# Altium footprint library Tantalum Capacitor.PcbLib: 19 footprints (part 1 of 2)
Each footprint in its own frame and in the unit in brackets; x right, y up, seen from the top. Pads: shape width x height; smd on the part's side, far side on the other; paste and mask are expansions set on the pad; w line width, h text height; cw(c..) or ccw(c..) is an arc to the next point about the centre after c.
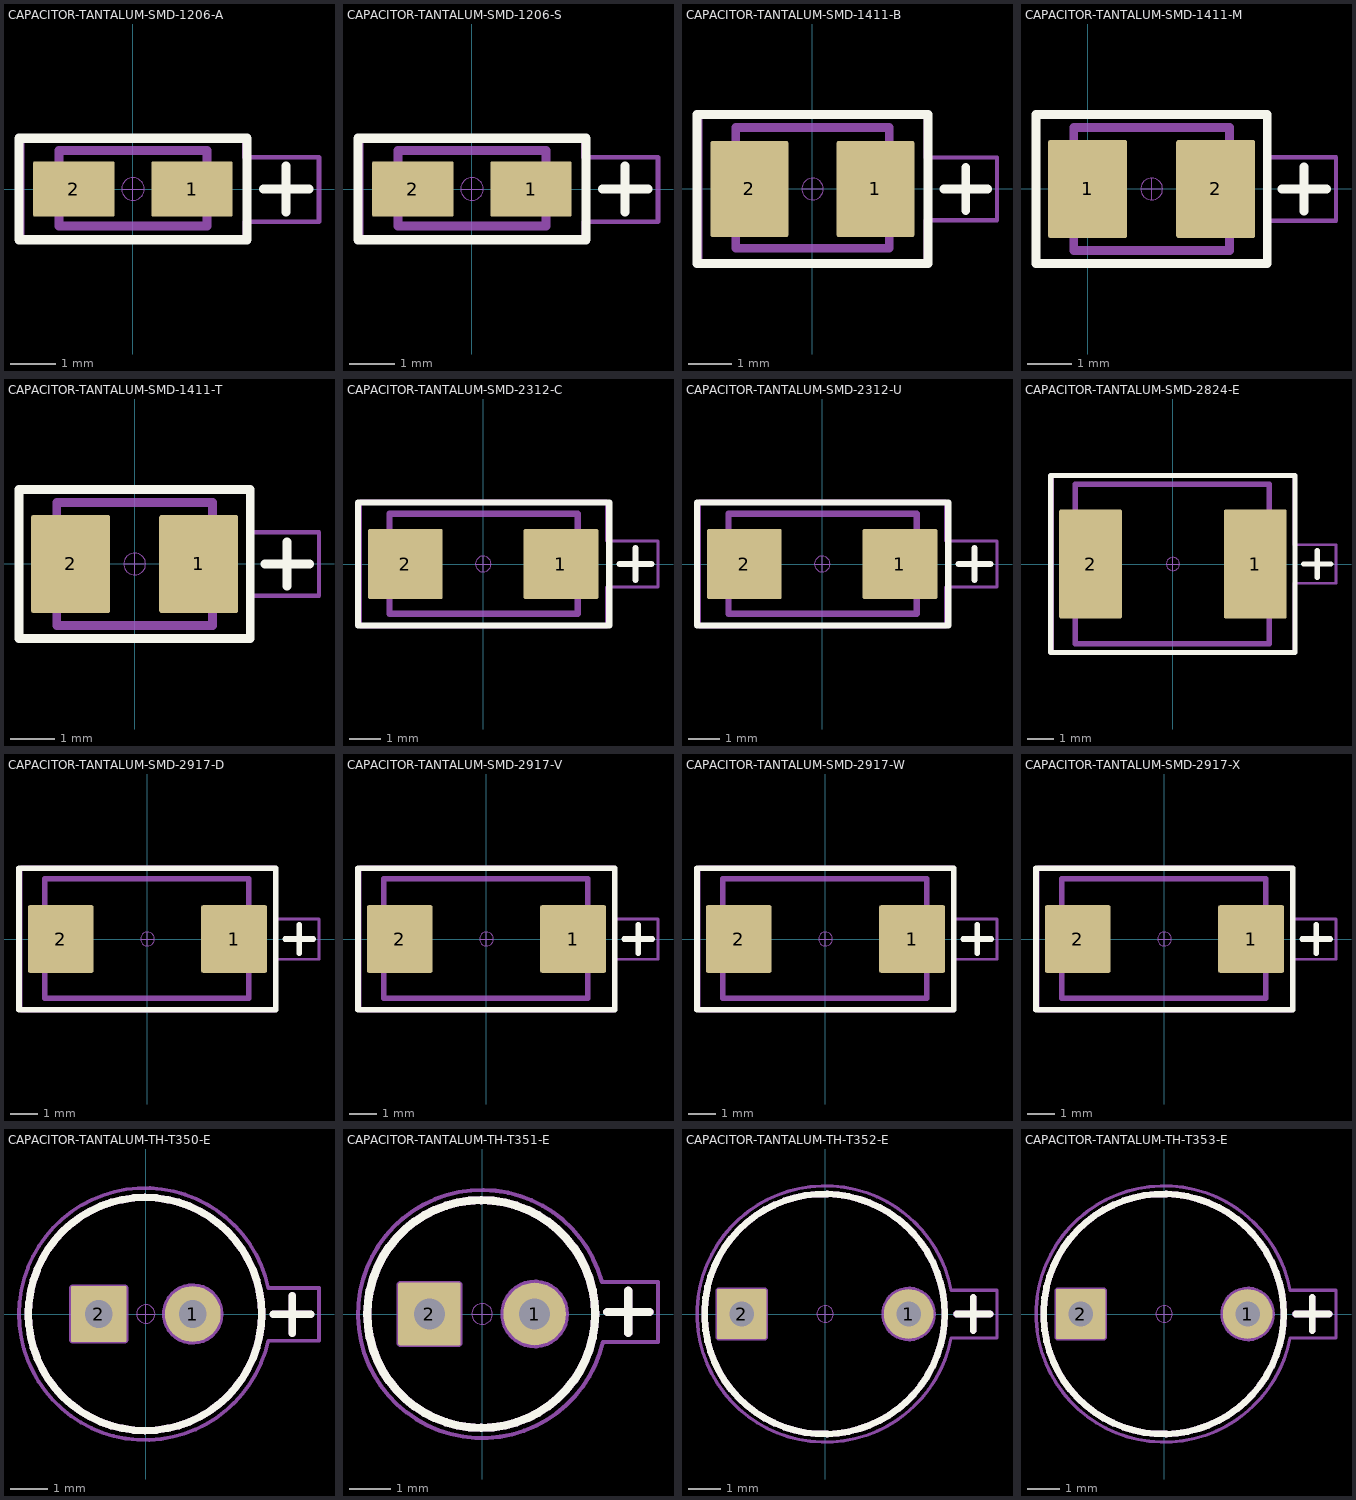
[diagram p0: the footprints below, top view; thin cyan lines are the x and y axes]

## CAPACITOR-TANTALUM-SMD-1206-A [mm] "Tantalum Capacitor SMD 1206 (Metric 3216) Case A"
height 1.8
pads (2):
  rrect5% 1.8x1.23 smd mask+0.05: 1(1.31,0) 2(-1.31,0)
Top Overlay:
  lines w0.2: 2.89,0 3.906,0 ; 3.398,-0.508 3.398,0.508 ; -2.525,-1.125 -2.525,1.125 2.525,1.125 2.525,-1.125 -2.525,-1.125
Top Component Outline:
  lines w0.2: -1.635,-0.825 1.64,-0.825 1.64,0.85 -1.635,0.85 -1.635,-0.825
  text "'.Comment'" at -2.226,-0.627 h1
Top Courtyard:
  lines w0.1: -2.45,-1.145 -2.45,1.15 2.47,1.15 2.47,0.705 4.12,0.705 ; -2.445,-1.15 2.475,-1.15 2.475,-0.725 4.125,-0.725 4.125,0.7
Top Component Center:
  circle w0.012: c0,0 r0.25
  lines w0.012: -0.25,0 0,0 ; 0,-0.25 0,0 ; 0,0.25 0,0 ; 0.25,0 0,0
Top Designator:
  text "'.Designator'" at -2.442,-0.224 h1
Top Assembly:
  lines w0.2: -1.635,-0.825 -1.635,0.85 1.64,0.85 1.64,-0.825 -1.635,-0.825
  text "'.Designator'" at -2.442,-0.224 h1
3D body "CAPACITOR-SMD-1206-A.step": height 1.8, standoff 0, extent -1.6,-0.8 1.6,0.8

## CAPACITOR-TANTALUM-SMD-1206-S [mm] "Tantalum Capacitor SMD 1206 (Metric 3216) Case S"
height 1.2
pads (2):
  rrect5% 1.8x1.23 smd mask+0.05: 1(1.31,0) 2(-1.31,0)
Top Overlay:
  lines w0.2: 2.89,0 3.906,0 ; 3.398,-0.508 3.398,0.508 ; -2.525,-1.125 -2.525,1.125 2.525,1.125 2.525,-1.125 -2.525,-1.125
Top Component Outline:
  lines w0.2: -1.635,-0.825 1.64,-0.825 1.64,0.85 -1.635,0.85 -1.635,-0.825
  text "'.Comment'" at -2.226,-0.627 h1
Top Courtyard:
  lines w0.1: -2.45,-1.145 -2.45,1.15 2.47,1.15 2.47,0.705 4.12,0.705 ; -2.445,-1.15 2.475,-1.15 2.475,-0.725 4.125,-0.725 4.125,0.7
Top Component Center:
  circle w0.012: c0,0 r0.25
  lines w0.012: -0.25,0 0,0 ; 0,-0.25 0,0 ; 0,0.25 0,0 ; 0.25,0 0,0
Top Designator:
  text "'.Designator'" at -2.442,-0.224 h1
Top Assembly:
  lines w0.2: -1.635,-0.825 -1.635,0.85 1.64,0.85 1.64,-0.825 -1.635,-0.825
  text "'.Designator'" at -2.442,-0.224 h1
3D body "CAPACITOR-SMD-1206-S.step": height 1.2, standoff 0, extent -1.585,-0.8 1.615,0.8

## CAPACITOR-TANTALUM-SMD-1411-B [mm] "Tantalum Capacitor SMD 1411 (Metric 3528) Case B"
height 2.1
pads (2):
  rrect5% 1.8x2.23 smd mask+0.05: 1(1.46,0) 2(-1.46,0)
Top Overlay:
  lines w0.2: 3.04,0 4.056,0 ; 3.548,-0.508 3.548,0.508 ; -2.675,-1.725 -2.675,1.725 2.675,1.725 2.675,-1.725 -2.675,-1.725
Top Component Outline:
  lines w0.2: -1.775,-1.375 1.775,-1.375 1.775,1.425 -1.775,1.425 -1.775,-1.375
  text "'.Comment'" at -2.226,-1.102 h1
Top Courtyard:
  lines w0.1: 2.62,-1.75 -2.6,-1.75 -2.6,1.75 2.62,1.75 2.62,0.73 4.27,0.73 ; 2.625,-1.745 2.625,-0.725 4.275,-0.725 4.275,0.725
Top Component Center:
  circle w0.012: c0,0 r0.25
  lines w0.012: -0.25,0 0,0 ; 0,-0.25 0,0 ; 0,0.25 0,0 ; 0.25,0 0,0
Top Designator:
  text "'.Designator'" at -2.592,-0.224 h1
Top Assembly:
  lines w0.2: -1.775,-1.375 -1.775,1.425 1.775,1.425 1.775,-1.375 -1.775,-1.375
  text "'.Designator'" at -2.592,-0.224 h1
3D body "CAPACITOR-SMD-1411-B.step": height 2.1, standoff 0, extent -1.75,-1.4 1.75,1.4

## CAPACITOR-TANTALUM-SMD-1411-M [mm] "Tantalum Capacitor SMD 1411 (Metric 3528) Case M"
height 1.5
pads (2):
  rrect5% 1.8x2.23 smd mask+0.05: 1(0,0) 2(2.92,0)
Top Overlay:
  lines w0.2: 4.425,0 5.441,0 ; 4.933,-0.508 4.933,0.508 ; -1.175,-1.7 -1.175,1.7 4.095,1.7 4.095,-1.7 -1.175,-1.7
Top Component Outline:
  lines w0.2: -0.315,-1.4 3.235,-1.4 3.235,1.4 -0.315,1.4 -0.315,-1.4
  text "'.Comment'" at -0.766,-0.952 h1
Top Courtyard:
  lines w0.1: 4.08,-0.73 4.08,-1.75 -1.14,-1.75 -1.14,1.75 4.08,1.75 4.08,0.73 ; 4.085,-0.725 5.66,-0.725 5.66,0.725 4.085,0.725
Top Component Center:
  circle w0.012: c1.46,0 r0.25
  lines w0.012: 1.21,0 1.46,0 ; 1.46,-0.25 1.46,0 ; 1.46,0.25 1.46,0 ; 1.71,0 1.46,0
Top Designator:
  text "'.Designator'" at -0.982,-0.224 h1
Top Assembly:
  lines w0.2: -0.315,-1.4 -0.315,1.4 3.235,1.4 3.235,-1.4 -0.315,-1.4
  text "'.Designator'" at -0.982,-0.224 h1
3D body "cAPACITOR-SMD-1411-M.step": height 1.5, standoff 0, extent -0.29,-1.4 3.21,1.4

## CAPACITOR-TANTALUM-SMD-1411-T [mm] "Tantalum Capacitor SMD 1411 (Metric 3528) Case T"
height 1.2
pads (2):
  rrect5% 1.8x2.23 smd mask+0.05: 1(1.46,0) 2(-1.46,0)
Top Overlay:
  lines w0.2: 2.965,0 3.981,0 ; 3.473,-0.508 3.473,0.508 ; -2.635,-1.7 -2.635,1.7 2.635,1.7 2.635,-1.7 -2.635,-1.7
Top Component Outline:
  lines w0.2: -1.775,-1.4 1.775,-1.4 1.775,1.4 -1.775,1.4 -1.775,-1.4
  text "'.Comment'" at -2.226,-0.952 h1
Top Courtyard:
  lines w0.1: 2.62,-0.73 2.62,-1.75 -2.6,-1.75 -2.6,1.75 2.62,1.75 2.62,0.73 ; 2.625,-0.725 4.2,-0.725 4.2,0.725 2.625,0.725
Top Component Center:
  circle w0.012: c0,0 r0.25
  lines w0.012: -0.25,0 0,0 ; 0,-0.25 0,0 ; 0,0.25 0,0 ; 0.25,0 0,0
Top Designator:
  text "'.Designator'" at -2.442,-0.224 h1
Top Assembly:
  lines w0.2: -1.775,-1.4 -1.775,1.4 1.775,1.4 1.775,-1.4 -1.775,-1.4
  text "'.Designator'" at -2.442,-0.224 h1
3D body "CAPACITOR-SMD-1411-T.step": height 1.2, standoff 0, extent -1.76,-1.4 1.74,1.4

## CAPACITOR-TANTALUM-SMD-2312-C [mm] "Tantalum Capacitor SMD 2312 (Metric 6032) Case C"
height 2.8
pads (2):
  rrect5% 2.37x2.23 smd mask+0.05: 1(2.47,0) 2(-2.47,0)
Top Overlay:
  lines w0.2: 4.33,0 5.346,0 ; 4.838,-0.508 4.838,0.508 ; -3.975,-1.95 -3.975,1.95 4,1.95 4,-1.95 -3.975,-1.95
Top Component Outline:
  lines w0.2: -2.975,-1.575 3,-1.575 3,1.6 -2.975,1.6 -2.975,-1.575
  text "'.Comment'" at -2.226,-1.277 h1
Top Courtyard:
  lines w0.1: 3.92,-2 -3.9,-2 -3.9,2 3.92,2 3.92,0.73 5.545,0.73 ; 3.925,-1.995 3.925,-0.725 5.55,-0.725 5.55,0.725
Top Component Center:
  circle w0.012: c0,0 r0.25
  lines w0.012: -0.25,0 0,0 ; 0,-0.25 0,0 ; 0,0.25 0,0 ; 0.25,0 0,0
Top Designator:
  text "'.Designator'" at -2.442,-0.224 h1
Top Assembly:
  lines w0.2: -2.975,-1.575 -2.975,1.6 3,1.6 3,-1.575 -2.975,-1.575
  text "'.Designator'" at -2.442,-0.224 h1
3D body "CAPACITOR-SMD-2312-C.step": height 2.8, standoff 0, extent -3,-1.6 3,1.6

## CAPACITOR-TANTALUM-SMD-2312-U [mm] "Tantalum Capacitor SMD 2312 (Metric 6032) Case U"
height 1.5
pads (2):
  rrect5% 2.37x2.23 smd mask+0.05: 1(2.47,0) 2(-2.47,0)
Top Overlay:
  lines w0.2: 4.33,0 5.346,0 ; 4.838,-0.508 4.838,0.508 ; -3.975,-1.95 4,-1.95 4,1.95 -3.975,1.95 -3.975,-1.95
Top Component Outline:
  lines w0.2: -2.975,-1.575 -2.975,1.6 3,1.6 3,-1.575 -2.975,-1.575
  text "'.Comment'" at -2.226,-1.277 h1
Top Courtyard:
  lines w0.1: 3.92,-2 -3.9,-2 -3.9,2 3.92,2 3.92,0.73 5.545,0.73 ; 3.925,-1.995 3.925,-0.725 5.55,-0.725 5.55,0.725
Top Component Center:
  circle w0.012: c0,0 r0.25
  lines w0.012: -0.25,0 0,0 ; 0,-0.25 0,0 ; 0,0.25 0,0 ; 0.25,0 0,0
Top Designator:
  text "'.Designator'" at -2.442,-0.224 h1
Top Assembly:
  lines w0.2: -2.975,-1.575 3,-1.575 3,1.6 -2.975,1.6 -2.975,-1.575
  text "'.Designator'" at -2.442,-0.224 h1
3D body "CAPACITOR-SMD-2312-U.step": height 1.5, standoff 0, extent -3.02,-1.6 2.98,1.6

## CAPACITOR-TANTALUM-SMD-2824-E [mm] "Tantalum Capacitor SMD 2824 (Metric 7260) Case E"
height 3.8
pads (2):
  rrect5% 2.37x4.13 smd mask+0.05: 1(3.12,0) 2(-3.12,0)
Top Overlay:
  lines w0.2: 4.955,0 5.971,0 ; 5.463,-0.508 5.463,0.508 ; -4.625,-3.35 4.625,-3.35 4.625,3.35 -4.625,3.35 -4.625,-3.35
Top Component Outline:
  lines w0.2: -3.7,-3.025 -3.7,3.025 3.65,3.025 3.65,-3.025 -3.7,-3.025
  text "'.Comment'" at -2.221,-2.677 h1
Top Courtyard:
  lines w0.1: -4.545,-3.4 4.575,-3.4 4.575,-0.725 6.175,-0.725 6.175,0.725 4.575,0.725 4.575,3.4 -4.545,3.4 -4.545,-3.4
Top Component Center:
  circle w0.012: c0,0 r0.25
  lines w0.012: -0.25,0 0,0 ; 0,-0.25 0,0 ; 0,0.25 0,0 ; 0.25,0 0,0
Top Designator:
  text "'.Designator'" at -2.442,-0.224 h1
Top Assembly:
  lines w0.2: -3.7,-3.025 3.65,-3.025 3.65,3.025 -3.7,3.025 -3.7,-3.025
  text "'.Designator'" at -2.442,-0.224 h1
3D body "CAPACITOR-SMD-2824-E.step": height 3.8, standoff 0, extent -3.65,-3 3.65,3

## CAPACITOR-TANTALUM-SMD-2917-D [mm] "Tantalum Capacitor SMD 2917 (Metric 7343) Case D"
height 3.1
pads (2):
  rrect5% 2.37x2.43 smd mask+0.05: 1(3.12,0) 2(-3.12,0)
Top Overlay:
  lines w0.2: 4.955,0 5.971,0 ; 5.463,-0.508 5.463,0.508 ; -4.625,-2.55 -4.625,2.55 4.625,2.55 4.625,-2.55 -4.625,-2.55
Top Component Outline:
  lines w0.2: -3.7,-2.125 3.65,-2.125 3.65,2.175 -3.7,2.175 -3.7,-2.125
  text "'.Comment'" at -2.226,-1.727 h1
Top Courtyard:
  lines w0.1: -4.545,-2.6 4.575,-2.6 4.575,-0.725 6.175,-0.725 6.175,0.725 4.575,0.725 4.575,2.6 -4.545,2.6 -4.545,-2.5
Top Component Center:
  circle w0.012: c0,0 r0.25
  lines w0.012: -0.25,0 0,0 ; 0,-0.25 0,0 ; 0,0.25 0,0 ; 0.25,0 0,0
Top Designator:
  text "'.Designator'" at -2.442,-0.224 h1
Top Assembly:
  lines w0.2: -3.7,-2.125 -3.7,2.175 3.65,2.175 3.65,-2.125 -3.7,-2.125
  text "'.Designator'" at -2.442,-0.224 h1
3D body "CAPACITOR-SMD-2917-D.step": height 3.1, standoff 0, extent -3.65,-2.15 3.65,2.15

## CAPACITOR-TANTALUM-SMD-2917-V [mm] "Tantalum Capacitor SMD 2917 (Metric 7343) Case V"
height 2
pads (2):
  rrect5% 2.37x2.43 smd mask+0.05: 1(3.12,0) 2(-3.12,0)
Top Overlay:
  lines w0.2: 4.955,0 5.971,0 ; 5.463,-0.508 5.463,0.508 ; -4.625,-2.55 -4.625,2.55 4.625,2.55 4.625,-2.55 -4.625,-2.55
Top Component Outline:
  lines w0.2: -3.7,-2.125 3.65,-2.125 3.65,2.175 -3.7,2.175 -3.7,-2.125
  text "'.Comment'" at -2.226,-1.727 h1
Top Courtyard:
  lines w0.1: -4.545,-2.6 4.575,-2.6 4.575,-0.725 6.175,-0.725 6.175,0.725 4.575,0.725 4.575,2.6 -4.545,2.6 -4.545,-2.5
Top Component Center:
  circle w0.012: c0,0 r0.25
  lines w0.012: -0.25,0 0,0 ; 0,-0.25 0,0 ; 0,0.25 0,0 ; 0.25,0 0,0
Top Designator:
  text "'.Designator'" at -2.442,-0.224 h1
Top Assembly:
  lines w0.2: -3.7,-2.125 -3.7,2.175 3.65,2.175 3.65,-2.125 -3.7,-2.125
  text "'.Designator'" at -2.442,-0.224 h1
3D body "CAPACITOR-SMD-2917-V.step": height 2, standoff 0, extent -3.67,-2.175 3.63,2.125

## CAPACITOR-TANTALUM-SMD-2917-W [mm] "Tantalum Capacitor SMD 2917 (Metric 7343) Case W"
height 1.5
pads (2):
  rrect5% 2.37x2.43 smd mask+0.05: 1(3.12,0) 2(-3.12,0)
Top Overlay:
  lines w0.2: 4.955,0 5.971,0 ; 5.463,-0.508 5.463,0.508 ; -4.625,-2.55 -4.625,2.55 4.625,2.55 4.625,-2.55 -4.625,-2.55
Top Component Outline:
  lines w0.2: -3.7,-2.125 3.65,-2.125 3.65,2.175 -3.7,2.175 -3.7,-2.125
  text "'.Comment'" at -2.226,-1.727 h1
Top Courtyard:
  lines w0.1: -4.545,-2.6 4.575,-2.6 4.575,-0.725 6.175,-0.725 6.175,0.725 4.575,0.725 4.575,2.6 -4.545,2.6 -4.545,-2.5
Top Component Center:
  circle w0.012: c0,0 r0.25
  lines w0.012: -0.25,0 0,0 ; 0,-0.25 0,0 ; 0,0.25 0,0 ; 0.25,0 0,0
Top Designator:
  text "'.Designator'" at -2.442,-0.224 h1
Top Assembly:
  lines w0.2: -3.7,-2.125 -3.7,2.175 3.65,2.175 3.65,-2.125 -3.7,-2.125
  text "'.Designator'" at -2.442,-0.224 h1
3D body "CAPACITOR-SMD-2917-W.step": height 1.5, standoff 0, extent -3.67,-2.15 3.63,2.15

## CAPACITOR-TANTALUM-SMD-2917-X [mm] "Tantalum Capacitor SMD 2917 (Metric 7343) Case X"
height 4.3
pads (2):
  rrect5% 2.37x2.43 smd mask+0.05: 1(3.12,0) 2(-3.12,0)
Top Overlay:
  lines w0.2: 4.955,0 5.971,0 ; 5.463,-0.508 5.463,0.508 ; -4.625,-2.55 4.625,-2.55 4.625,2.55 -4.625,2.55 -4.625,-2.55
Top Component Outline:
  lines w0.2: -3.7,-2.125 -3.7,2.175 3.65,2.175 3.65,-2.125 -3.7,-2.125
  text "'.Comment'" at -2.226,-1.727 h1
Top Courtyard:
  lines w0.1: -4.545,-2.6 4.575,-2.6 4.575,-0.725 6.175,-0.725 6.175,0.725 4.575,0.725 4.575,2.6 -4.545,2.6 -4.545,-2.5
Top Component Center:
  circle w0.012: c0,0 r0.25
  lines w0.012: -0.25,0 0,0 ; 0,-0.25 0,0 ; 0,0.25 0,0 ; 0.25,0 0,0
Top Designator:
  text "'.Designator'" at -2.442,-0.224 h1
Top Assembly:
  lines w0.2: -3.7,-2.125 3.65,-2.125 3.65,2.175 -3.7,2.175 -3.7,-2.125
  text "'.Designator'" at -2.442,-0.224 h1
3D body "CAPACITOR-SMD-2917-X.step": height 4.3, standoff 0, extent -3.67,-2.15 3.63,2.15

## CAPACITOR-TANTALUM-TH-T350-E [mm] "Tantalum Capacitor TH Series T350 - Pitch 100mils, diam 6.3, lead diam. 0.55"
height 8.9
pads (2):
  round 1.51 hole 0.75 mask+0.05: 1(1.27,0)
  rrect5% 1.51x1.51 hole 0.75 mask+0.05: 2(-1.27,0)
Top Overlay:
  circle w0.2: c-0.02,0 r3.15
  lines w0.2: 3.447,-0.008 4.463,-0.008 ; 3.955,-0.516 3.955,0.5
Top Component Outline:
  circle w0.2: c-0.02,0 r3.15
  lines w0.2: 3.447,-0.008 4.463,-0.008 ; 3.955,-0.516 3.955,0.5
  text "'.Comment'" at -2.226,-2.152 h1
Top Courtyard:
  lines w0.1: 3.306,-0.72 cw(c-0.02,0) 3.31,0.701 4.679,0.701 4.679,-0.72 3.306,-0.72
Top Component Center:
  circle w0.012: c0,0 r0.25
  lines w0.012: -0.25,0 0,0 ; 0,-0.25 0,0 ; 0,0.25 0,0 ; 0.25,0 0,0
Top Designator:
  text "'.Designator'" at -2.442,-0.224 h1
Top Assembly:
  circle w0.2: c-0.02,0 r3.15
  circle w0.2: c1.27,0 r0.73
  lines w0.2: 3.447,-0.008 4.463,-0.008 ; 3.955,-0.516 3.955,0.5 ; -1.97,-0.7 -0.57,-0.7 -0.57,0.7 -1.97,0.7 -1.97,-0.7
  text "'.Designator'" at -2.442,-0.224 h1
3D body "CAPACITOR-TH-T350-E.step": height 8.9, standoff -13.96, extent -2.77,-2.75 2.73,2.75

## CAPACITOR-TANTALUM-TH-T351-E [mm] "Tantalum Capacitor TH Series T351 - Pitch 100mils, diam 5.5, lead diam. 0.55"
height 10.986
pads (2):
  round 1.51 hole 0.75 mask+0.05: 1(1.27,0)
  rrect5% 1.51x1.51 hole 0.75 mask+0.05: 2(-1.27,0)
Top Overlay:
  circle w0.2: c-0.02,0 r2.75
  lines w0.2: 3.025,0.05 4.041,0.05 ; 3.533,-0.458 3.533,0.558
Top Component Outline:
  circle w0.2: c-0.02,0 r2.75
  lines w0.2: 3.04,0.05 4.056,0.05 ; 3.53,-0.458 3.53,0.558
  text "'.Comment'" at -2.226,-2.152 h1
Top Courtyard:
  lines w0.1: 2.894,0.773 ccw(c0,0) 2.919,-0.674 4.248,-0.674 4.248,0.773 2.894,0.773
Top Component Center:
  circle w0.012: c0,0 r0.25
  lines w0.012: -0.25,0 0,0 ; 0,-0.25 0,0 ; 0,0.25 0,0 ; 0.25,0 0,0
Top Designator:
  text "'.Designator'" at -2.442,-0.224 h1
Top Assembly:
  circle w0.2: c-0.02,0 r2.75
  circle w0.2: c1.27,0 r0.73
  lines w0.2: 3.022,0.05 4.038,0.05 ; 3.53,-0.458 3.53,0.558 ; -1.97,-0.7 -0.57,-0.7 -0.57,0.7 -1.97,0.7 -1.97,-0.7
  text "'.Designator'" at -2.442,-0.224 h1
3D body "CAPACITOR-TH-T351-E.step": height 10.99, standoff -5.77, extent -2.745,-2.75 2.755,2.75

## CAPACITOR-TANTALUM-TH-T352-E [mm] "Tantalum Capacitor TH Series T352 - Pitch 200mils, diam 5.5, lead diam. 0.55"
height 11.376
pads (2):
  round 1.51 hole 0.75 mask+0.05: 1(2.54,0)
  rrect5% 1.51x1.51 hole 0.75 mask+0.05: 2(-2.54,0)
Top Overlay:
  circle w0.2: c-0.02,0 r3.65
  lines w0.2: 3.995,0 5.011,0 ; 4.503,-0.508 4.503,0.508
Top Component Outline:
  circle w0.2: c-0.02,0 r3.65
  lines w0.2: 4.01,0 5.026,0 ; 4.5,-0.508 4.5,0.508
  text "'.Comment'" at -2.226,-2.827 h1
Top Courtyard:
  lines w0.1: 3.827,-0.728 cw(c0,0) 3.827,0.725 5.225,0.725 5.225,-0.728 3.827,-0.728
Top Component Center:
  circle w0.012: c0,0 r0.25
  lines w0.012: -0.25,0 0,0 ; 0,-0.25 0,0 ; 0,0.25 0,0 ; 0.25,0 0,0
Top Designator:
  text "'.Designator'" at -2.462,-0.224 h1
Top Assembly:
  circle w0.2: c-0.02,0 r3.65
  circle w0.2: c2.54,0 r0.73
  lines w0.2: 3.992,0 5.008,0 ; 4.5,-0.508 4.5,0.508 ; -3.24,-0.7 -1.84,-0.7 -1.84,0.7 -3.24,0.7 -3.24,-0.7
  text "'.Designator'" at -2.462,-0.224 h1
3D body "CAPACITOR-TH-T352-E.step": height 11.38, standoff -5.89, extent -2.815,-2.75 2.815,2.75

## CAPACITOR-TANTALUM-TH-T353-E [mm] "Tantalum Capacitor TH Series T353 - Pitch 200mils, diam 5.5, lead diam. 0.55"
height 12.779
pads (2):
  round 1.51 hole 0.75 mask+0.05: 1(2.54,0)
  rrect5% 1.51x1.51 hole 0.75 mask+0.05: 2(-2.54,0)
Top Overlay:
  circle w0.2: c-0.02,0 r3.65
  lines w0.2: 3.995,0 5.011,0 ; 4.503,-0.508 4.503,0.508
Top Component Outline:
  circle w0.2: c-0.02,0 r3.65
  lines w0.2: 4.01,0 5.026,0 ; 4.5,-0.508 4.5,0.508
  text "'.Comment'" at -2.226,-2.827 h1
Top Courtyard:
  lines w0.1: 3.827,-0.728 cw(c0,0) 3.827,0.725 5.225,0.725 5.225,-0.728 3.827,-0.728
Top Component Center:
  circle w0.012: c0,0 r0.25
  lines w0.012: -0.25,0 0,0 ; 0,-0.25 0,0 ; 0,0.25 0,0 ; 0.25,0 0,0
Top Designator:
  text "'.Designator'" at -2.462,-0.224 h1
Top Assembly:
  circle w0.2: c2.54,0 r0.73
  circle w0.2: c-0.02,0 r3.65
  lines w0.2: 3.992,0 5.008,0 ; 4.5,-0.508 4.5,0.508 ; -3.24,-0.7 -3.24,0.7 -1.84,0.7 -1.84,-0.7 -3.24,-0.7
  text "'.Designator'" at -2.462,-0.224 h1
3D body "CAPACITOR-TH-T353-E.step": height 12.78, standoff -4.48, extent -2.815,-2.75 2.815,2.75